# Altium integrated library IMM-NRF5x.IntLib: 8 symbols
Pins are listed as number, name and electrical type; pins without a type are passive.

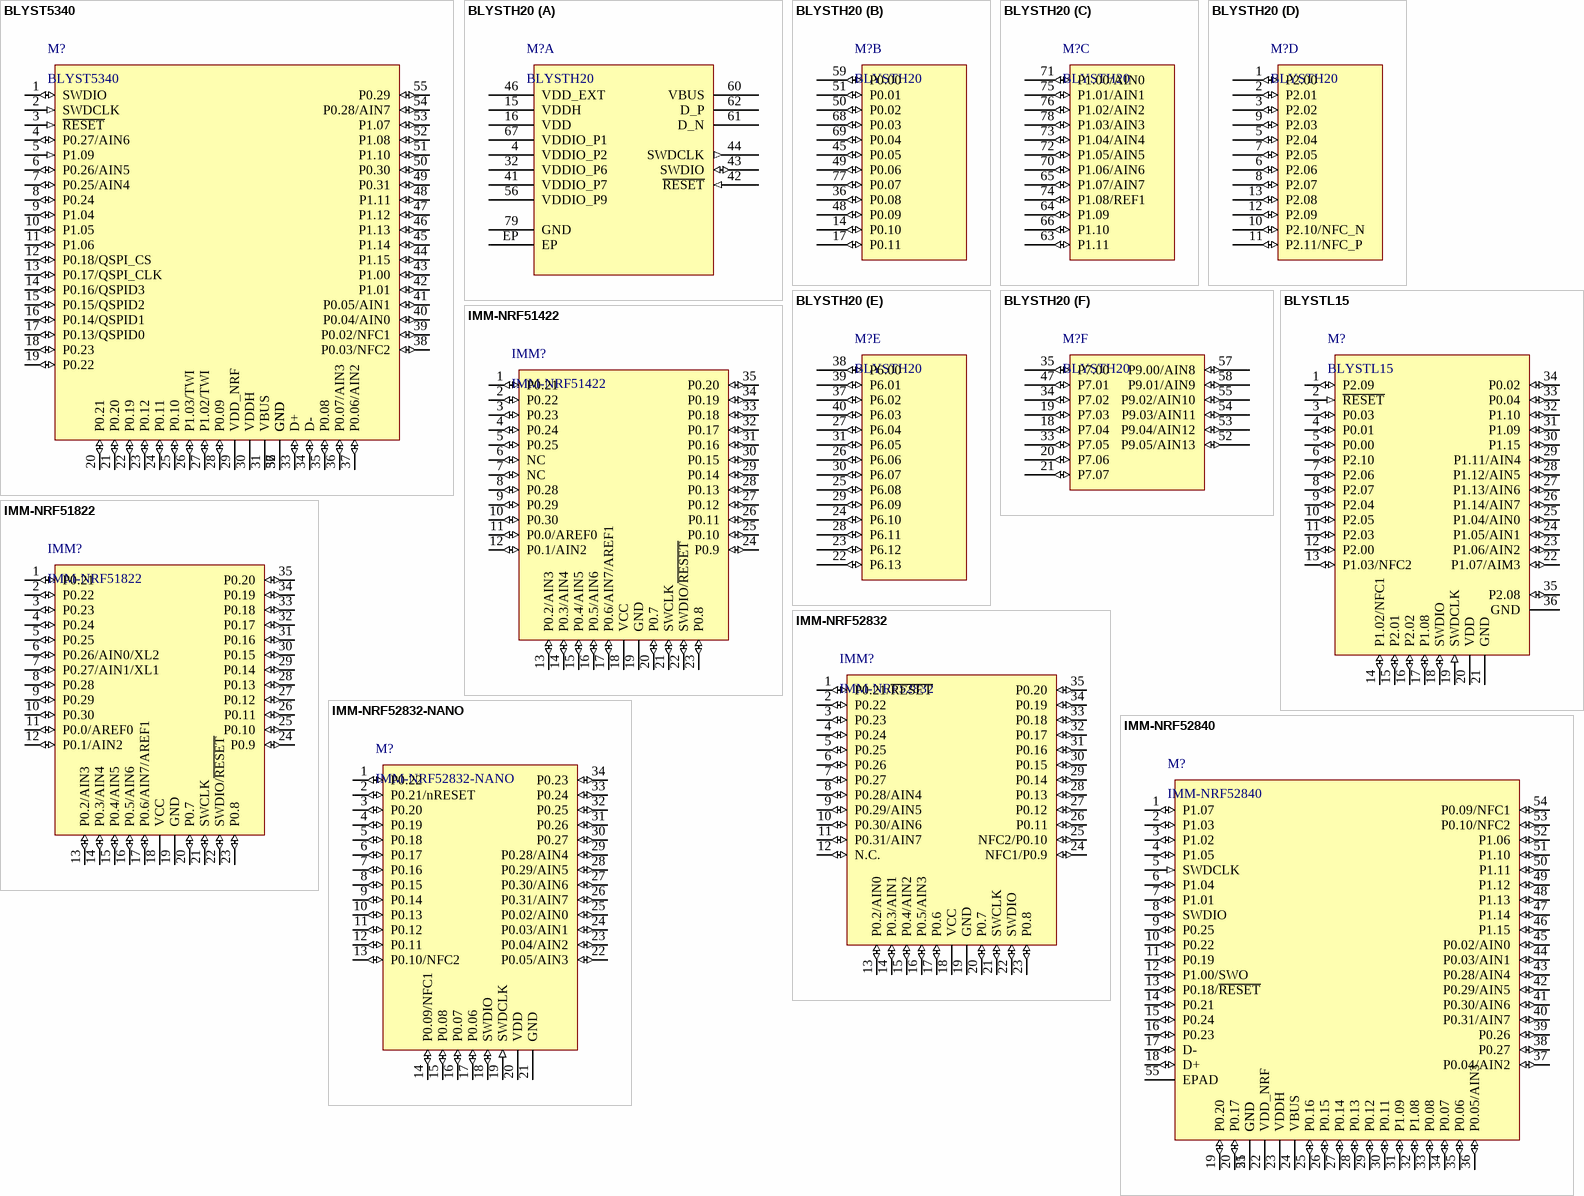
[diagram p0: symbols BLYST5340 to IMM-NRF52840]

## BLYST5340
designator M?
BLYST5340 - Bluetooth 5 module
footprint BLYST5340 (BLYST5340 BLE5 module)
pins: 1 SWDIO (io), 2 SWDCLK (in), 3 ~{RESET} (in), 4 P0.27/AIN6 (io), 5 P1.09 (in), 6 P0.26/AIN5 (io), 7 P0.25/AIN4 (io), 8 P0.24 (io), 9 P1.04 (io), 10 P1.05 (io), 11 P1.06 (io), 12 P0.18/QSPI_CS (io), 13 P0.17/QSPI_CLK (io), 14 P0.16/QSPID3 (io), 15 P0.15/QSPID2 (io), 16 P0.14/QSPID1 (io), 17 P0.13/QSPID0 (io), 18 P0.23 (io), 19 P0.22 (io), 20 P0.21 (io), 21 P0.20 (io), 22 P0.19 (io), 23 P0.12 (io), 24 P0.11 (io), 25 P0.10 (io), 26 P1.03/TWI (io), 27 P1.02/TWI (io), 28 P0.09 (io), 29 VDD_NRF (power), 30 VDDH (power), 31 VBUS (power), 32 GND, 33 D+ (io), 34 D- (io), 35 P0.08 (io), 36 P0.07/AIN3 (io), 37 P0.06/AIN2 (io), 38 P0.03/NFC2 (io), 39 P0.02/NFC1 (io), 40 P0.04/AIN0 (io), 41 P0.05/AIN1 (io), 42 P1.01 (io), 43 P1.00 (io), 44 P1.15 (io), 45 P1.14 (io), 46 P1.13 (io), 47 P1.12 (io), 48 P1.11 (io), 49 P0.31 (io), 50 P0.30 (io), 51 P1.10 (io), 52 P1.08 (io), 53 P1.07 (io), 54 P0.28/AIN7 (io), 55 P0.29 (io), 56 GND (power), 57 GND (power)

## BLYSTH20
designator M?
Nordic nRF54H20 based M33 BLE, Zigbee, Threads
footprint BLYSTH20 (Nordic nRF54H20 based module. BLE/Zigbee/Threads)
part A pins: 4 VDDIO_P2, 15 VDDH (power), 16 VDD (power), 32 VDDIO_P6, 41 VDDIO_P7, 42 ~{RESET} (in), 43 SWDIO (io), 44 SWDCLK (out), 46 VDD_EXT (power), 56 VDDIO_P9, 60 VBUS, 61 D_N, 62 D_P, 67 VDDIO_P1, 79 GND, EP
part B pins: 14 P0.10 (io), 17 P0.11 (io), 36 P0.08 (io), 45 P0.05 (io), 48 P0.09 (io), 49 P0.06 (io), 50 P0.02 (io), 51 P0.01 (io), 59 P0.00 (io), 68 P0.03 (io), 69 P0.04 (io), 77 P0.07 (io)
part C pins: 63 P1.11 (io), 64 P1.09 (io), 65 P1.07/AIN7 (io), 66 P1.10 (io), 70 P1.06/AIN6 (io), 71 P1.00/AIN0 (io), 72 P1.05/AIN5 (io), 73 P1.04/AIN4 (io), 74 P1.08/REF1 (io), 75 P1.01/AIN1 (io), 76 P1.02/AIN2 (io), 78 P1.03/AIN3 (io)
part D pins: 1 P2.00 (io), 2 P2.01 (io), 3 P2.02 (io), 5 P2.04 (io), 6 P2.06 (io), 7 P2.05 (io), 8 P2.07 (io), 9 P2.03 (io), 10 P2.10/NFC_N (io), 11 P2.11/NFC_P (io), 12 P2.09 (io), 13 P2.08 (io)
part E pins: 22 P6.13 (io), 23 P6.12 (io), 24 P6.10 (io), 25 P6.08 (io), 26 P6.06 (io), 27 P6.04 (io), 28 P6.11 (io), 29 P6.09 (io), 30 P6.07 (io), 31 P6.05 (io), 37 P6.02 (io), 38 P6.00 (io), 39 P6.01 (io), 40 P6.03 (io)
part F pins: 18 P7.04 (io), 19 P7.03 (io), 20 P7.06 (io), 21 P7.07 (io), 33 P7.05 (io), 34 P7.02 (io), 35 P7.00 (io), 47 P7.01 (io), 52 P9.05/AIN13 (io), 53 P9.04/AIN12 (io), 54 P9.03/AIN11 (io), 55 P9.02/AIN10 (io), 57 P9.00/AIN8 (io), 58 P9.01/AIN9 (io)

## BLYSTL15
designator M?
Nordic  nRF54L15 - BLE module
footprint BLYSTL15 (nRF54L15 Bluetooth LE Module)
pins: 1 P2.09 (io), 2 ~{RESET} (in), 3 P0.03 (io), 4 P0.01 (io), 5 P0.00 (io), 6 P2.10 (io), 7 P2.06 (io), 8 P2.07 (io), 9 P2.04 (io), 10 P2.05 (io), 11 P2.03 (io), 12 P2.00 (io), 13 P1.03/NFC2 (io), 14 P1.02/NFC1 (io), 15 P2.01 (io), 16 P2.02 (io), 17 P1.08 (io), 18 SWDIO (io), 19 SWDCLK (in), 20 VDD (power), 21 GND, 22 P1.07/AIM3 (io), 23 P1.06/AIN2 (io), 24 P1.05/AIN1 (io), 25 P1.04/AIN0 (io), 26 P1.14/AIN7 (io), 27 P1.13/AIN6 (io), 28 P1.12/AIN5 (io), 29 P1.11/AIN4 (io), 30 P1.15 (io), 31 P1.09 (io), 32 P1.10 (io), 33 P0.04 (io), 34 P0.02 (io), 35 P2.08 (io), 36 GND

## IMM-NRF51422
designator IMM?
IMM-NRF51422 - ANT & BLE module
footprint IMM-NRF5X_MIX (IMM-NRF5X mixed SMD & Throughhole)
footprint IMM-NRF5X_SMD (IMM-NRF51822, IMM-NRF51422, IMM-NRF52832 SMD)
pins: 1 P0.21 (io), 2 P0.22 (io), 3 P0.23 (io), 4 P0.24 (io), 5 P0.25 (io), 6 NC (io), 7 NC (io), 8 P0.28 (io), 9 P0.29 (io), 10 P0.30 (io), 11 P0.0/AREF0 (io), 12 P0.1/AIN2 (io), 13 P0.2/AIN3 (io), 14 P0.3/AIN4 (io), 15 P0.4/AIN5 (io), 16 P0.5/AIN6 (io), 17 P0.6/AIN7/AREF1 (io), 18 VCC (power), 19 GND "Ground", 20 P0.7 (io), 21 SWCLK (io), 22 SWDIO/~{RESET} (io), 23 P0.8 (io), 24 P0.9 (io), 25 P0.10 (io), 26 P0.11 (io), 27 P0.12 (io), 28 P0.13 (io), 29 P0.14 (io), 30 P0.15 (io), 31 P0.16 (io), 32 P0.17 (io), 33 P0.18 (io), 34 P0.19 (io), 35 P0.20 (io)

## IMM-NRF51822
designator IMM?
IMM-NRF51822 - BLE module
footprint IMM-NRF5X_MIX (IMM-NRF5X mixed SMD & Throughhole)
footprint IMM-NRF5X_SMD (IMM-NRF51822, IMM-NRF51422, IMM-NRF52832 SMD)
pins: 1 P0.21 (io), 2 P0.22 (io), 3 P0.23 (io), 4 P0.24 (io), 5 P0.25 (io), 6 P0.26/AIN0/XL2 (io), 7 P0.27/AIN1/XL1 (io), 8 P0.28 (io), 9 P0.29 (io), 10 P0.30 (io), 11 P0.0/AREF0 (io), 12 P0.1/AIN2 (io), 13 P0.2/AIN3 (io), 14 P0.3/AIN4 (io), 15 P0.4/AIN5 (io), 16 P0.5/AIN6 (io), 17 P0.6/AIN7/AREF1 (io), 18 VCC (power), 19 GND "Ground", 20 P0.7 (io), 21 SWCLK (io), 22 SWDIO/~{RESET} (io), 23 P0.8 (io), 24 P0.9 (io), 25 P0.10 (io), 26 P0.11 (io), 27 P0.12 (io), 28 P0.13 (io), 29 P0.14 (io), 30 P0.15 (io), 31 P0.16 (io), 32 P0.17 (io), 33 P0.18 (io), 34 P0.19 (io), 35 P0.20 (io)

## IMM-NRF52832
designator IMM?
IMM-NRF52832 - ANT & BLE module
footprint IMM-NRF5X_MIX (IMM-NRF5X mixed SMD & Throughhole)
footprint IMM-NRF5X_SMD (IMM-NRF51822, IMM-NRF51422, IMM-NRF52832 SMD)
pins: 1 P0.21/~{RESET} (io), 2 P0.22 (io), 3 P0.23 (io), 4 P0.24 (io), 5 P0.25 (io), 6 P0.26 (io), 7 P0.27 (io), 8 P0.28/AIN4 (io), 9 P0.29/AIN5 (io), 10 P0.30/AIN6 (io), 11 P0.31/AIN7 (io), 12 N.C. (io), 13 P0.2/AIN0 (io), 14 P0.3/AIN1 (io), 15 P0.4/AIN2 (io), 16 P0.5/AIN3 (io), 17 P0.6 (io), 18 VCC (power), 19 GND "Ground", 20 P0.7 (io), 21 SWCLK (io), 22 SWDIO (io), 23 P0.8 (io), 24 NFC1/P0.9 (io), 25 NFC2/P0.10 (io), 26 P0.11 (io), 27 P0.12 (io), 28 P0.13 (io), 29 P0.14 (io), 30 P0.15 (io), 31 P0.16 (io), 32 P0.17 (io), 33 P0.18 (io), 34 P0.19 (io), 35 P0.20 (io)

## IMM-NRF52832-NANO
designator M?
IMM-NRF52832-NANO - ANT & BLE module
footprint IMM-NRF52832-NANO (nRF52832 Bluetooth LE Nano Module)
pins: 1 P0.22 (io), 2 P0.21/nRESET (io), 3 P0.20 (io), 4 P0.19 (io), 5 P0.18 (io), 6 P0.17 (io), 7 P0.16 (io), 8 P0.15 (io), 9 P0.14 (io), 10 P0.13 (io), 11 P0.12 (io), 12 P0.11 (io), 13 P0.10/NFC2 (io), 14 P0.09/NFC1 (io), 15 P0.08 (io), 16 P0.07 (io), 17 P0.06 (io), 18 SWDIO (io), 19 SWDCLK (in), 20 VDD (power), 21 GND, 22 P0.05/AIN3 (io), 23 P0.04/AIN2 (io), 24 P0.03/AIN1 (io), 25 P0.02/AIN0 (io), 26 P0.31/AIN7 (io), 27 P0.30/AIN6 (io), 28 P0.29/AIN5 (io), 29 P0.28/AIN4 (io), 30 P0.27 (io), 31 P0.26 (io), 32 P0.25 (io), 33 P0.24 (io), 34 P0.23 (io)

## IMM-NRF52840
designator M?
IMM-NRF52840 - ANT+ & BLE module
footprint IMM-NRF52840 (IMM-NRF52840 ANT+, BLE5 module)
pins: 1 P1.07 (io), 2 P1.03 (io), 3 P1.02 (io), 4 P1.05 (io), 5 SWDCLK (in), 6 P1.04 (io), 7 P1.01 (io), 8 SWDIO (io), 9 P0.25 (io), 10 P0.22 (io), 11 P0.19 (io), 12 P1.00/SWO (io), 13 P0.18/~{RESET} (io), 14 P0.21 (io), 15 P0.24 (io), 16 P0.23 (io), 17 D- (io), 18 D+ (io), 19 P0.20 (io), 20 P0.17 (io), 21 GND (power), 22 VDD_NRF, 23 VDDH (power), 24 VBUS (power), 25 P0.16 (io), 26 P0.15 (io), 27 P0.14 (io), 28 P0.13 (io), 29 P0.12 (io), 30 P0.11 (io), 31 P1.09 (io), 32 P1.08 (io), 33 P0.08 (io), 34 P0.07 (io), 35 P0.06 (io), 36 P0.05/AIN3 (io), 37 P0.04/AIN2 (io), 38 P0.27 (io), 39 P0.26 (io), 40 P0.31/AIN7 (io), 41 P0.30/AIN6 (io), 42 P0.29/AIN5 (io), 43 P0.28/AIN4 (io), 44 P0.03/AIN1 (io), 45 P0.02/AIN0 (io), 46 P1.15 (io), 47 P1.14 (io), 48 P1.13 (io), 49 P1.12 (io), 50 P1.11 (io), 51 P1.10 (io), 52 P1.06 (io), 53 P0.10/NFC2 (io), 54 P0.09/NFC1 (io), 55 EPAD, 55 GND (power)